# Altium schematic symbol library SCH - ARM CORTEX - STM STM32F102C(4-6)Tx.SchLib: 1 symbol
Pins are listed as number, name and electrical type; pins without a type are passive.

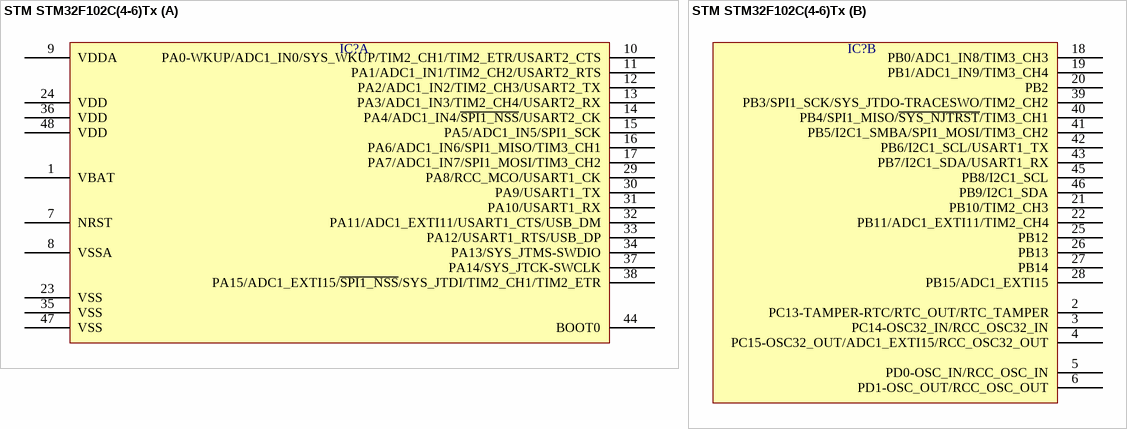
[diagram p0: symbol STM STM32F102C(4-6)Tx]

## STM STM32F102C(4-6)Tx
designator IC?  (value not drawn)
part A pins: 1 VBAT, 7 NRST, 8 VSSA, 9 VDDA, 10 PA0-WKUP/ADC1_IN0/SYS_WKUP/TIM2_CH1/TIM2_ETR/USART2_CTS, 11 PA1/ADC1_IN1/TIM2_CH2/USART2_RTS, 12 PA2/ADC1_IN2/TIM2_CH3/USART2_TX, 13 PA3/ADC1_IN3/TIM2_CH4/USART2_RX, 14 PA4/ADC1_IN4/~{SPI1_NSS}/USART2_CK, 15 PA5/ADC1_IN5/SPI1_SCK, 16 PA6/ADC1_IN6/SPI1_MISO/TIM3_CH1, 17 PA7/ADC1_IN7/SPI1_MOSI/TIM3_CH2, 23 VSS, 24 VDD, 29 PA8/RCC_MCO/USART1_CK, 30 PA9/USART1_TX, 31 PA10/USART1_RX, 32 PA11/ADC1_EXTI11/USART1_CTS/USB_DM, 33 PA12/USART1_RTS/USB_DP, 34 PA13/SYS_JTMS-SWDIO, 35 VSS, 36 VDD, 37 PA14/SYS_JTCK-SWCLK, 38 PA15/ADC1_EXTI15/~{SPI1_NSS}/SYS_JTDI/TIM2_CH1/TIM2_ETR, 44 BOOT0, 47 VSS, 48 VDD
part B pins: 2 PC13-TAMPER-RTC/RTC_OUT/RTC_TAMPER, 3 PC14-OSC32_IN/RCC_OSC32_IN, 4 PC15-OSC32_OUT/ADC1_EXTI15/RCC_OSC32_OUT, 5 PD0-OSC_IN/RCC_OSC_IN, 6 PD1-OSC_OUT/RCC_OSC_OUT, 18 PB0/ADC1_IN8/TIM3_CH3, 19 PB1/ADC1_IN9/TIM3_CH4, 20 PB2, 21 PB10/TIM2_CH3, 22 PB11/ADC1_EXTI11/TIM2_CH4, 25 PB12, 26 PB13, 27 PB14, 28 PB15/ADC1_EXTI15, 39 PB3/SPI1_SCK/SYS_JTDO-TRACESWO/TIM2_CH2, 40 PB4/SPI1_MISO/~{SYS_NJTRST}/TIM3_CH1, 41 PB5/I2C1_SMBA/SPI1_MOSI/TIM3_CH2, 42 PB6/I2C1_SCL/USART1_TX, 43 PB7/I2C1_SDA/USART1_RX, 45 PB8/I2C1_SCL, 46 PB9/I2C1_SDA